# EAGLE library part RC4558 (library CYCFI_semicon)
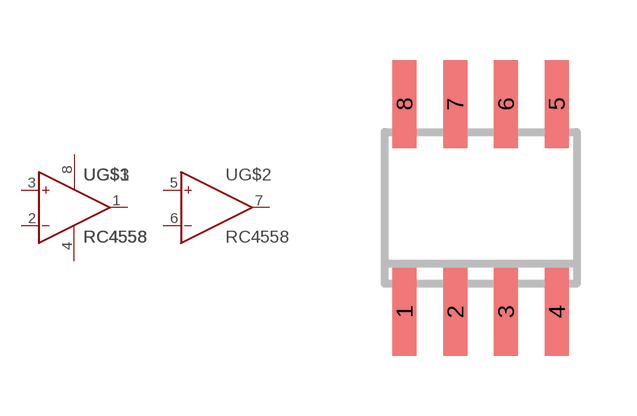
[diagram p1: symbol with the pads of SOIC-8; footprint SOIC-8]

Designator prefix -; gates G$1=OP G$2=OP G$3=PWR+-

## RC4558  [SOIC-8]
1  G$1:OUT  out
2  G$1:IN-  in
3  G$1:IN+  in
4  G$3:V-  pwr
5  G$2:IN+  in
6  G$2:IN-  in
7  G$2:OUT  out
8  G$3:V+  pwr

## Footprint SOIC-8 (pad centres in mm)
smd 0.6 x 2.2: 1 -1.905,-2.6; 2 -0.635,-2.6; 3 0.635,-2.6; 4 1.905,-2.6; 5 1.905,2.6; 6 0.635,2.6; 7 -0.635,2.6; 8 -1.905,2.6